# Altium footprint library PcbLib1.PcbLib: 23 footprints (part 2 of 2)
Each footprint in its own frame and in the unit in brackets; x right, y up, seen from the top. Pads: shape width x height; smd on the part's side, far side on the other; paste and mask are expansions set on the pad; w line width, h text height; cw(c..) or ccw(c..) is an arc to the next point about the centre after c.
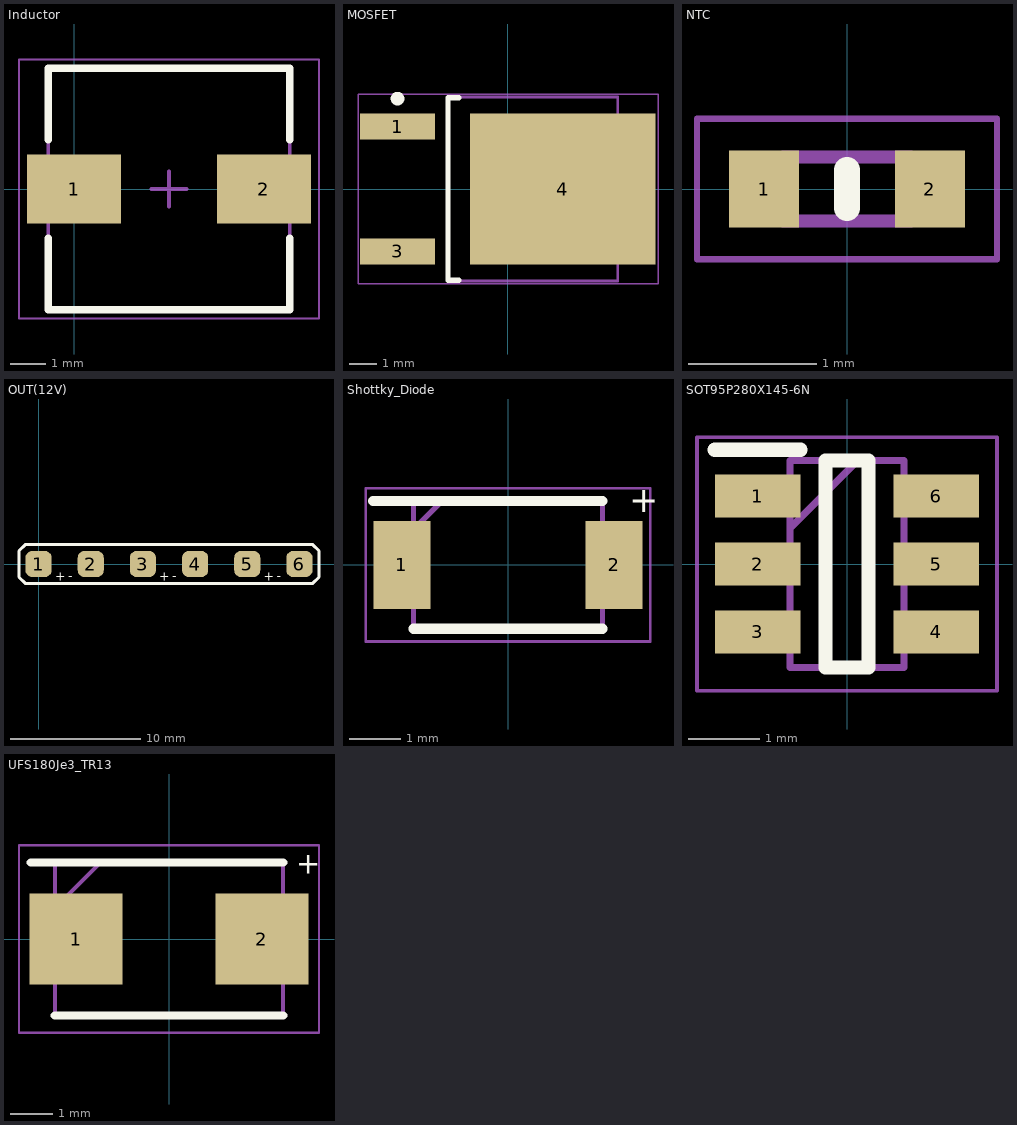
[diagram p1: the footprints below, top view; thin cyan lines are the x and y axes]

## Inductor [mm] "Precision Wire Wound Inductor, 2-Leads, Body 6.50x6.50mm, IPC Medium Density"
height 4.9
pads (2):
  rect 2.65x1.95 smd: 1(0,0) 2(5.35,0)
Top Overlay:
  lines w0.2: -0.725,-1.375 -0.725,-3.4 6.075,-3.4 6.075,-1.375 ; -0.725,1.375 -0.725,3.4 6.075,3.4 6.075,1.375
Mechanical 13:
  lines w0.1: -0.725,-3.4 -0.725,3.4 6.075,3.4 6.075,-3.4 -0.725,-3.4
Mechanical 15:
  lines w0.05: -1.55,-3.65 -1.55,3.65 6.9,3.65 6.9,-3.65 -1.55,-3.65
  lines w0.1: 2.175,0 3.175,0 ; 2.675,-0.5 2.675,0.5
3D body "INDP6565X49N.step": height 5, standoff 0, extent -0.675,-3.25 6.025,3.25

## MOSFET [mm] "D-PAK, 3-Pads, Body 6.21x6.73mm (max), IPC High Density"
height 2.41
pads (3):
  rect 2.75x0.95 smd: 1(-4.05,2.29) 3(-4.05,-2.29)
  rect 6.8x5.55 smd: 4(2,0)
Top Overlay:
  circle w0.25: c-4.05,3.315 r0.125
  lines w0.2: -1.8,-3.35 -2.2,-3.35 -2.2,3.35 -1.8,3.35
Mechanical 13:
  lines w0.1: -2.2,-3.375 4.02,-3.375 4.02,3.375 -2.2,3.375 -2.2,-3.375
Mechanical 15:
  lines w0.05: -5.5,-3.475 5.5,-3.475 5.5,3.475 -5.5,3.475 -5.5,-3.475
  lines w0.1: -0.5,0 0.5,0 ; 0,-0.5 0,0.5
3D body "DPAK229P994X241-3L.step": height 2.56, standoff 0, extent -4.525,-3.375 5.415,3.375

## NTC [mm]
pads (2):
  rect 0.55x0.6 smd: 1(-0.65,0) 2(0.65,0)
Top Overlay:
  lines w0.2: 0,-0.15 0,0.15
Mechanical 13:
  lines w0.1: -0.5,-0.25 0.5,-0.25 0.5,0.25 -0.5,0.25 -0.5,-0.25
Mechanical 15:
  lines w0.05: -1.175,-0.55 1.175,-0.55 1.175,0.55 -1.175,0.55 -1.175,-0.55
3D body "NTCG104BF683JT1X.stp": height 0.55, standoff 0, extent -0.5,-0.25 0.5,0.25

## OUT(12V) [mm]
pads (6):
  rrect50% 2x2 smd: 1(0,0) 2(4,0) 3(8,0) 4(12,0) 5(16,0) 6(20,0)
Top Overlay:
  lines w0.254: -1.5,-1 -1,-1.5 13.5,-1.5 21,-1.5 21.5,-1 21.5,1 21,1.5 1,1.5 -1,1.5 -1.5,1 -1.5,-1
  text "-" at 18.267,-1.25 h0.7
  text "-" at 10.267,-1.25 h0.7
  text "-" at 2.267,-1.25 h0.7
  text "+" at 17.267,-1.267 h0.7
  text "+" at 9.267,-1.267 h0.7
  text "+" at 1.267,-1.267 h0.7

## Shottky_Diode [mm]
pads (2):
  rect 1.12x1.72 smd: 1(-2.075,0) 2(2.075,0)
Top Overlay:
  lines w0.2: -2.635,1.25 1.85,1.25 ; -1.85,-1.25 1.85,-1.25
  text "+" at 2.373,1.033 h0.5
Mechanical 13:
  lines w0.1: -1.85,0.69 -1.29,1.25 ; -1.85,-1.25 -1.85,1.25 1.85,1.25 1.85,-1.25 -1.85,-1.25
Mechanical 15:
  lines w0.05: -2.785,-1.5 -2.785,1.5 2.785,1.5 2.785,-1.5 -2.785,-1.5
3D body "RB058LAM100TR.stp": height 1.05, standoff 0, extent -2.35,-1.25 2.35,1.25

## SOT95P280X145-6N [mm]
pads (6):
  rect 1.2x0.6 smd: 1(-1.25,0.95) 2(-1.25,0) 3(-1.25,-0.95) 4(1.25,-0.95) 5(1.25,0) 6(1.25,0.95)
Top Overlay:
  lines w0.2: -1.85,1.6 -0.65,1.6 ; -0.3,-1.45 -0.3,1.45 0.3,1.45 0.3,-1.45 -0.3,-1.45
Mechanical 13:
  lines w0.1: -0.8,0.5 0.15,1.45 ; -0.8,-1.45 -0.8,1.45 0.8,1.45 0.8,-1.45 -0.8,-1.45
Mechanical 15:
  lines w0.05: -2.1,-1.775 -2.1,1.775 2.1,1.775 2.1,-1.775 -2.1,-1.775
3D body "UCC28701DBVT.stp": height 1.2, standoff 0, extent -1.4,-1.45 1.4,1.45

## UFS180Je3_TR13 [mm]
pads (2):
  rect 2.2x2.15 smd: 1(-2.2,0) 2(2.2,0)
Top Overlay:
  lines w0.2: -3.275,1.81 2.7,1.81 ; -2.7,-1.81 2.7,-1.81
  text "+" at 3.008,1.541 h0.5
Mechanical 13:
  lines w0.1: -2.7,0.735 -1.625,1.81 ; -2.7,-1.81 -2.7,1.81 2.7,1.81 2.7,-1.81 -2.7,-1.81
Mechanical 15:
  lines w0.05: -3.55,-2.22 -3.55,2.22 3.55,2.22 3.55,-2.22 -3.55,-2.22
3D body "UFS180Je3_TR13.stp": height 3.3, standoff 0, extent -2.7,-1.81 2.7,1.81